# EAGLE library part CKCL44X7R1H102M085AA (library CKCL44X7R1H102M085AA)
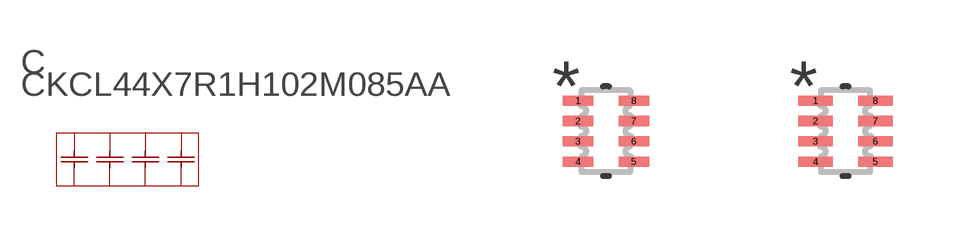
[diagram p0: symbol with the pads of CKCL44; footprints CKCL44, CKCL44-M]

Designator prefix C

## CKCL44X7R1H102M085AA (MANUFACTURER_PART_NUMBER: CKCL44X7R1H102M085AA; VENDOR: TDK)  [CKCL44]
1  17  pas
2  25  pas
3  33  pas
4  41  pas
5  52  pas
6  64  pas
7  76  pas
8  88  pas

## CKCL44X7R1H102M085AACKCL44-M (MANUFACTURER_PART_NUMBER: CKCL44X7R1H102M085AA; VENDOR: TDK)  [CKCL44-M]
Pads as for CKCL44

## CKCL44X7R1H102M085AACKCL44-L (MANUFACTURER_PART_NUMBER: CKCL44X7R1H102M085AA; VENDOR: TDK)  [CKCL44-L]
Pads as for CKCL44

## Footprint CKCL44 (pad centres in mm)
smd 0.762 x 0.254: 1 -0.699,0.762; 2 -0.699,0.254; 3 -0.699,-0.254; 4 -0.699,-0.762; 5 0.699,-0.762; 6 0.699,-0.254; 7 0.699,0.254; 8 0.699,0.762

## Footprint CKCL44-M (pad centres in mm)
smd 0.864 x 0.254: 1 -0.749,0.762; 2 -0.749,0.254; 3 -0.749,-0.254; 4 -0.749,-0.762; 5 0.749,-0.762; 6 0.749,-0.254; 7 0.749,0.254; 8 0.749,0.762

## Footprint CKCL44-L (pad centres in mm)
smd 0.66 x 0.254: 1 -0.648,0.762; 2 -0.648,0.254; 3 -0.648,-0.254; 4 -0.648,-0.762; 5 0.648,-0.762; 6 0.648,-0.254; 7 0.648,0.254; 8 0.648,0.762